# EAGLE library part 5087-10 (library macintosh)
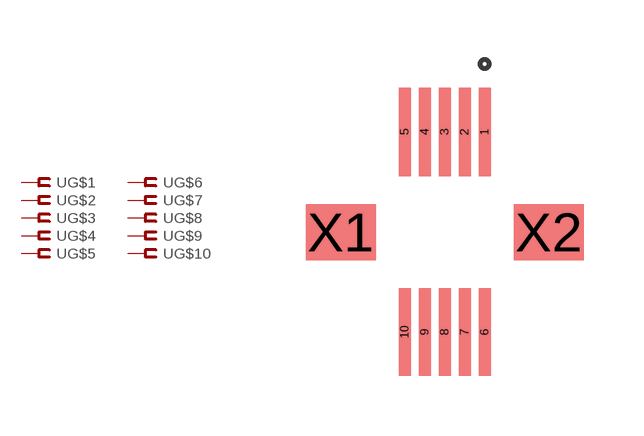
[diagram p1: symbol with the pads of 5087-10; footprint 5087-10]

Designator prefix -; gates G$1=F G$2=F G$3=F G$4=F G$5=F G$6=F G$7=F G$8=F G$9=F G$10=F

## 5087-10  [5087-10]
1  G$1:S  pas
2  G$3:S  pas
3  G$5:S  pas
4  G$7:S  pas
5  G$9:S  pas
6  G$2:S  pas
7  G$4:S  pas
8  G$6:S  pas
9  G$8:S  pas
10  G$10:S  pas

## Footprint 5087-10 (pad centres in mm)
smd 0.3 x 2.2: 1 2,0; 2 1.5,0; 3 1,0; 4 0.5,0; 5 0,0; 6 2,-5; 7 1.5,-5; 8 1,-5; 9 0.5,-5; 10 0,-5
smd 1.75 x 1.4: X1 -1.6,-2.5; X2 3.6,-2.5